# EAGLE library part ADS8330IB (library EF_Lib)
http://www.ti.com/lit/ds/symlink/ads8330.pdf
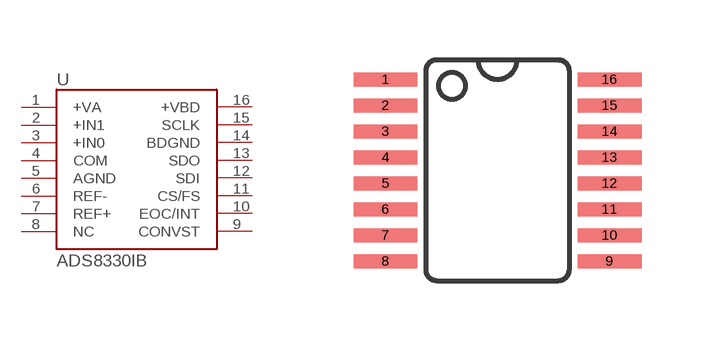
[diagram p0: symbol with the pads of TSSOP16; footprint TSSOP16]

Designator prefix -

## ADS8330IB  [TSSOP16]
1  +VA  pwr
2  +IN1
3  +IN0
4  COM
5  AGND  pwr
6  REF-
7  REF+
8  NC  nc
9  CONVST
10  EOC/INT
11  CS/FS
12  SDI
13  SDO
14  BDGND  pwr
15  SCLK
16  +VBD  pwr

## Footprint TSSOP16 (pad centres in mm)
smd 1.6 x 0.35: 1 -2.8,2.275; 2 -2.8,1.625; 3 -2.8,0.975; 4 -2.8,0.325; 5 -2.8,-0.325; 6 -2.8,-0.975; 7 -2.8,-1.625; 8 -2.8,-2.275; 9 2.8,-2.275; 10 2.8,-1.625; 11 2.8,-0.975; 12 2.8,-0.325; 13 2.8,0.325; 14 2.8,0.975; 15 2.8,1.625; 16 2.8,2.275